# EAGLE library part DWM1000 (library DWM1000)
The DWM1000 module is based on Decawave's DW1000 Ultra Wideband (UWB) transceiver IC. It integrates antenna, all RF circuitry, power management and clock circuitry in one module. It can be used in 2-way ranging or TDOA location systems to locate assets to a precision of 10 cm and supports data rates of up to 6.8 Mbps
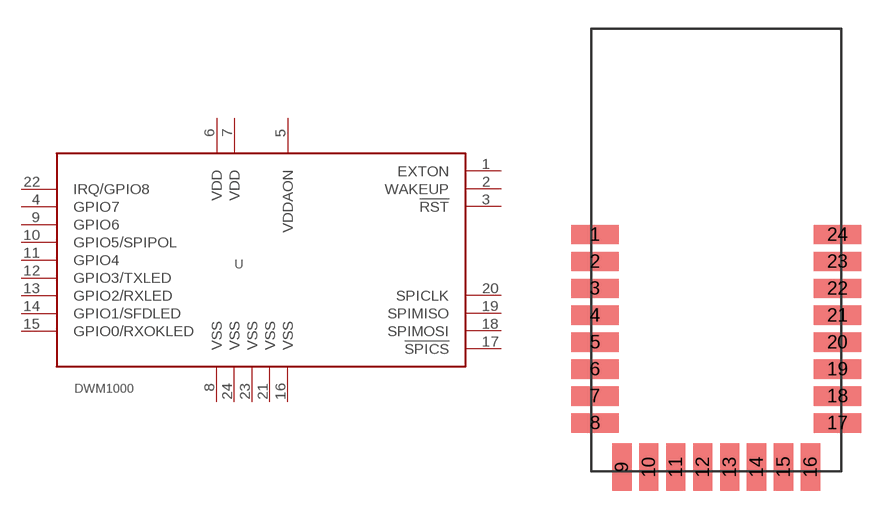
[diagram p0: symbol with the pads of DWM1000; footprint DWM1000]

Designator prefix U

## DWM1000  [DWM1000]
1  EXTON  out
2  WAKEUP
3  !RST  in
4  GPIO7
5  VDDAON
6  VDD  pas
7  VDD  pas
8  VSS  pas
9  GPIO6
10  GPIO5/SPIPOL
11  GPIO4
12  GPIO3/TXLED
13  GPIO2/RXLED
14  GPIO1/SFDLED
15  GPIO0/RXOKLED
16  VSS
17  !SPICS  in
18  SPIMOSI  in
19  SPIMISO  out
20  SPICLK  in
21  VSS  pas
22  IRQ/GPIO8
23  VSS  pas
24  VSS  pas

## Footprint DWM1000 (pad centres in mm)
smd 2.45 x 1: 1 -6.3,12.3; 2 -6.3,10.9; 3 -6.3,9.5; 4 -6.3,8.1; 5 -6.3,6.7; 6 -6.3,5.3; 7 -6.3,3.9; 8 -6.3,2.5; 17 6.3,2.5; 18 6.3,3.9; 19 6.3,5.3; 20 6.3,6.7; 21 6.3,8.1; 22 6.3,9.5; 23 6.3,10.9; 24 6.3,12.3
smd 1 x 2.45: 9 -4.9,0.205; 10 -3.5,0.205; 11 -2.1,0.205; 12 -0.7,0.205; 13 0.7,0.205; 14 2.1,0.205; 15 3.5,0.205; 16 4.9,0.205